# EAGLE library part 8RX (library multicopter)
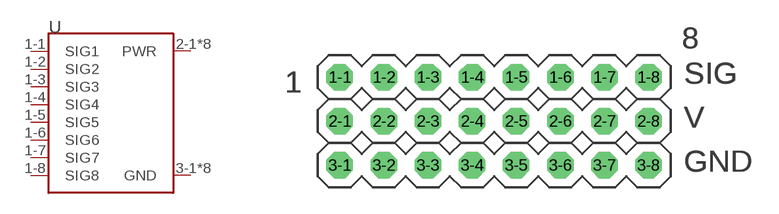
[diagram p0: symbol with the pads of MA08-3; footprint MA08-3]

Designator prefix -

## 8RX  [MA08-3]
1-1  SIG1
1-2  SIG2
1-3  SIG3
1-4  SIG4
1-5  SIG5
1-6  SIG6
1-7  SIG7
1-8  SIG8
2-1  PWR  pwr
2-2  PWR  pwr
2-3  PWR  pwr
2-4  PWR  pwr
2-5  PWR  pwr
2-6  PWR  pwr
2-7  PWR  pwr
2-8  PWR  pwr
3-1  GND  pwr
3-2  GND  pwr
3-3  GND  pwr
3-4  GND  pwr
3-5  GND  pwr
3-6  GND  pwr
3-7  GND  pwr
3-8  GND  pwr

## Footprint MA08-3 (pad centres in mm)
PIN HEADER
drill 1.016 octagon: 1-1 -8.89,5.08; 1-2 -6.35,5.08; 1-3 -3.81,5.08; 1-4 -1.27,5.08; 1-5 1.27,5.08; 1-6 3.81,5.08; 1-7 6.35,5.08; 1-8 8.89,5.08; 2-1 -8.89,2.54; 2-2 -6.35,2.54; 2-3 -3.81,2.54; 2-4 -1.27,2.54; 2-5 1.27,2.54; 2-6 3.81,2.54; 2-7 6.35,2.54; 2-8 8.89,2.54; 3-1 -8.89,0; 3-2 -6.35,0; 3-3 -3.81,0; 3-4 -1.27,0; 3-5 1.27,0; 3-6 3.81,0; 3-7 6.35,0; 3-8 8.89,0